# Altium footprint library Diode_On_Semiconductor_MBRD1035CTLT4G_eec_MFG.PcbLib: 1 footprints
Each footprint in its own frame and in the unit in brackets; x right, y up, seen from the top. Pads: shape width x height; smd on the part's side, far side on the other; paste and mask are expansions set on the pad; w line width, h text height; cw(c..) or ccw(c..) is an arc to the next point about the centre after c.
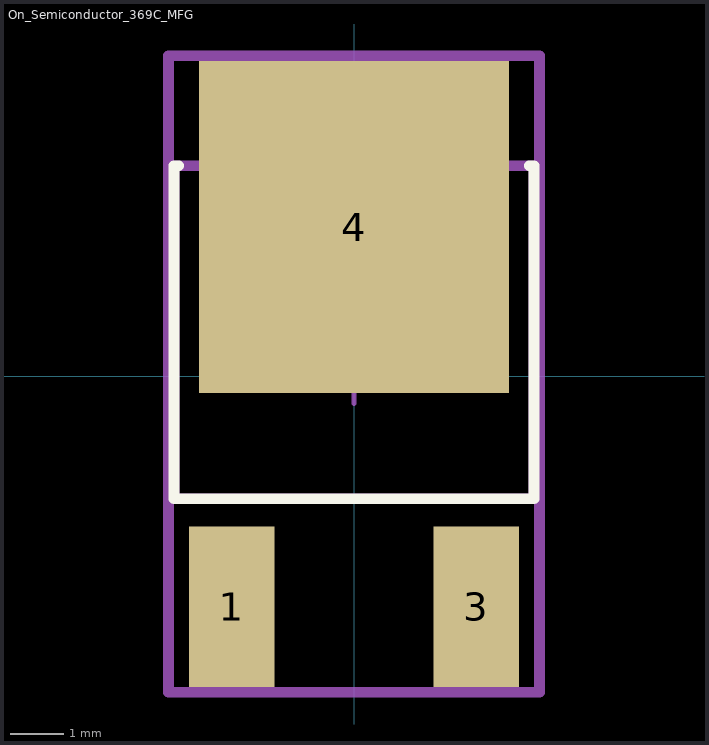
[diagram p0: the footprint, top view; thin cyan lines are the x and y axes]

## On_Semiconductor_369C_MFG [mm]
pads (3):
  rect 1.6x3 smd paste+0 mask+0: 1(-2.285,-4.3) 3(2.285,-4.3)
  rect 5.8x6.2 smd paste+0 mask+0: 4(0,2.79)
Top Overlay:
  lines w0.2: -3.275,3.935 -3.365,3.935 -3.365,-2.285 3.365,-2.285 3.365,3.935 3.275,3.935
Mechanical 10:
  lines w0.2: -3.465,-5.9 3.465,-5.9 3.465,5.99 -3.465,5.99 -3.465,-5.9
  text ".Designator" at 0,0.045 h1
Mechanical 12:
  lines w0.2: -3.365,-2.285 3.365,-2.285 3.365,3.935 -3.365,3.935 -3.365,-2.285
Mechanical 15:
  lines w0.1: -0.5,0 0.5,0 ; 0,-0.5 0,0.5
  lines w0.2: -3.465,-5.9 3.465,-5.9 3.465,5.99 -3.465,5.99 -3.465,-5.9
3D body "Diode_On_Semiconductor_MBRD1035CTLT4G_eec.STEP": height 0.25, standoff 0, extent -3.465,-5.9 3.465,5.99